# Altium schematic symbol library kmilo17pet-LT_OpAmp_LT2000.SchLib: 1710 symbols (part 65 of 75)
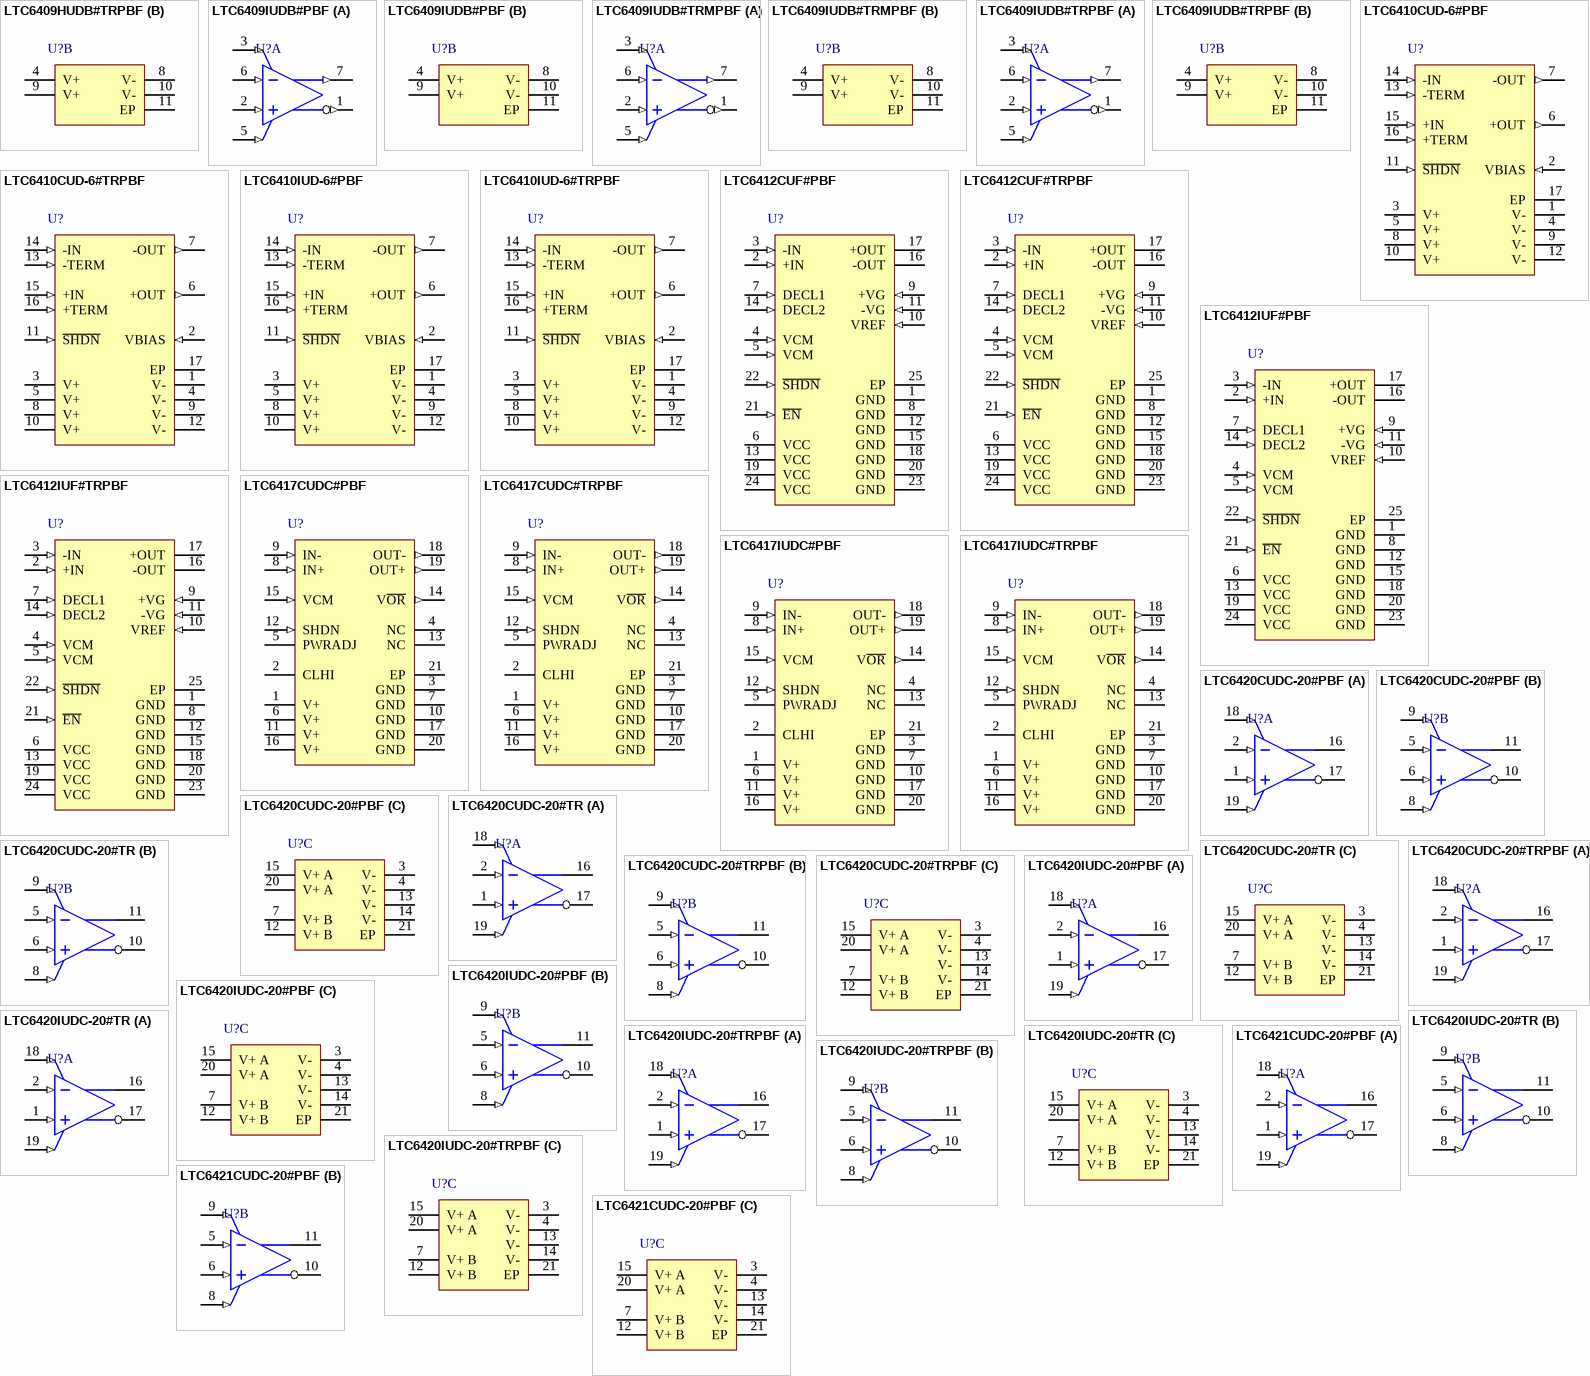
[diagram p144: symbols LTC6409HUDB#TRPBF to LTC6421CUDC-20#PBF]

## LTC6417IUDC#TRPBF
designator U?
Single Channel, Low Noise, High Linearity Differential Buffer / 16-Bit ADC Driver with Fast Clamp, 1600 MHz Typical GBW, 10000 V/us Typical SR, 4.75 to 5.25 V, 20-Pin QFN (UDC20), Industrial, Pb-Free, Reel; Linear Technology Part Number: LTC6417; Manufacturer: Linear Technology; PartNumber: LTC6417IUDC#TRPBF; Channels (#): 1; GBW (MHz) Typical: 1600; Is (mA) Typical: 123; SR (V/us) Typical: 10000; Vos (mV) Typical: 0.1; Vs Max (V): 5.25; Vs Min (V): 4.75; PackageVersion: Rev Ø; PackageReference: LT-UDC-20; PackageDescription: 20-Lead Plastic QFN, Body 3 x 4 mm, Pitch 0.5 mm; Supplier 1: Digi-Key; Supplier Part Number 1: LTC6417IUDC#TRPBF-ND; Supplier 2: Newark; Supplier Part Number 2: 27W9506; Packing: Reel; RoHS: Pb-Free; Type: DIFF; Mounting Technology: Surface Mount; ComponentLink1Description: Manufacturer URL; ComponentLink1URL: http://www.linear.com/; ComponentLink2Description: Datasheet; ComponentLink2URL: http://cds.linear.com/docs/en/datasheet/6417f.pdf; ComponentLink3Description: Package Specification; ComponentLink3URL: http://cds.linear.com/docs/en/packaging/QFN_20_05-08-1742.pdf
footprint LT-UDC-20_N (QFN, 20-Leads, Body 4x3mm, Pitch 0.5mm, Thermal Pad 2.5x1.5mm, IPC Medium Density)
footprint LT-UDC-20_L (QFN, 20-Leads, Body 4x3mm, Pitch 0.5mm, Thermal Pad 2.5x1.5mm, IPC High Density)
footprint LT-UDC-20_M (QFN, 20-Leads, Body 4x3mm, Pitch 0.5mm, Thermal Pad 2.5x1.5mm, IPC Low Density)
pins: 1 V+ (power) "Positive Power Supply. Typically 5V.Split supplies are possible as long as the voltage between V+ and GND is 4.75V to 5.25V. Bypass capacitors of 680Pf and 0.1uF as close to the part as possible should be used between the (See Datasheet)", 2 CLHI (power) "High Side Clamp Voltage. The voltage applied to the CLHI pin defines the upper voltage limit of the OUT+ and OUT- pins. This voltage should be set at least 300mV above the upper voltage range of the ADC. On a 5V supply, the (See Datasheet)", 3 GND (power) "Negative Power Supply. Normally tied to ground. All pins and the exposed pad must be tied to the same voltage. GND may be tied to a voltage other than ground as long as the voltage between V+ and GND is 4.75V to 5.25V. If (See Datasheet)", 4 NC "No Connection. These pins are not connected internally.", 5 PWRADJ (power) "Power Adjust Voltage. The voltage applied to this pin scales the bias current internal to the LTC6417. The PWRADJ pin will float to a 1.6V default voltage. PWRADJ has a Thevenin equivalent resistance of approximately 14.5k (See Datasheet)", 6 V+ (power) "Positive Power Supply. Typically 5V.Split supplies are possible as long as the voltage between V+ and GND is 4.75V to 5.25V. Bypass capacitors of 680Pf and 0.1uF as close to the part as possible should be used between the (See Datasheet)", 7 GND (power) "Negative Power Supply. Normally tied to ground. All pins and the exposed pad must be tied to the same voltage. GND may be tied to a voltage other than ground as long as the voltage between V+ and GND is 4.75V to 5.25V. If (See Datasheet)", 8 IN+ (in) "Non-inverting and inverting input pins of the buffer, respectively. These pins are high impedance, approximately 9.5k. If AC-coupled, these pins will self bias to the voltage applied to the VCM pin.", 9 IN- (in) "Non-inverting and inverting input pins of the buffer, respectively. These pins are high impedance, approximately 9.5k. If AC-coupled, these pins will self bias to the voltage applied to the VCM pin.", 10 GND (power) "Negative Power Supply. Normally tied to ground. All pins and the exposed pad must be tied to the same voltage. GND may be tied to a voltage other than ground as long as the voltage between V+ and GND is 4.75V to 5.25V. If (See Datasheet)", 11 V+ (power) "Positive Power Supply. Typically 5V.Split supplies are possible as long as the voltage between V+ and GND is 4.75V to 5.25V. Bypass capacitors of 680Pf and 0.1uF as close to the part as possible should be used between the (See Datasheet)", 12 SHDN (in) "This pin puts the LTC6417 in sleep mode when pulled high. If no voltage is applied to the SHDN pin, it floats down to the same potential as GND.", 13 NC "No Connection. These pins are not connected internally.", 14 V~{OR} (out) "Overrange Output. This pin, by default at 3.4V, will be pulled down to GND, when one or both input signals go beyond the minimum or maximum swing set by the CLHI and VCM pins.", 15 VCM (in) "This pin sets the output common mode voltage seen at OUT+ and OUT- by driving IN+ and IN- through a buffer with a high output resistance of 9.5k. The VCM pin has a Thevenin equivalent resistance of approximately 2.7k and can (See Datasheet)", 16 V+ (power) "Positive Power Supply. Typically 5V.Split supplies are possible as long as the voltage between V+ and GND is 4.75V to 5.25V. Bypass capacitors of 680Pf and 0.1uF as close to the part as possible should be used between the (See Datasheet)", 17 GND (power) "Negative Power Supply. Normally tied to ground. All pins and the exposed pad must be tied to the same voltage. GND may be tied to a voltage other than ground as long as the voltage between V+ and GND is 4.75V to 5.25V. If (See Datasheet)", 18 OUT- (out) "Outputs.", 19 OUT+ (out) "Outputs.", 20 GND (power) "Negative Power Supply. Normally tied to ground. All pins and the exposed pad must be tied to the same voltage. GND may be tied to a voltage other than ground as long as the voltage between V+ and GND is 4.75V to 5.25V. If (See Datasheet)", 21 EP (power) "Negative Power Supply. Normally tied to ground. All pins and the exposed pad must be tied to the same voltage. GND may be tied to a voltage other than ground as long as the voltage between V+ and GND is 4.75V to 5.25V. If (See Datasheet)"

## LTC6420CUDC-20#PBF
designator U?
Dual Channel, Matched Differential Amplifier / ADC Driver, 3000 MHz Typical GBW, 4500 V/us Typical SR, 2.85 to 3.5 V, 20-Pin QFN (UDC20), Commercial, Pb-Free; Linear Technology Part Number: LTC6420-20; Manufacturer: Linear Technology; PartNumber: LTC6420CUDC-20#PBF; Channels (#): 2; GBW (MHz) Typical: 3000; Is (mA) Typical: 80; SR (V/us) Typical: 4500; Vos (mV) Typical: 0.4; Vs Max (V): 3.5; Vs Min (V): 2.85; DatasheetVersion: Rev. B; PackageVersion: Rev Ø; PackageReference: LT-UDC-20; PackageDescription: 20-Lead Plastic QFN, Body 3 x 4 mm, Pitch 0.5 mm; Supplier 1: Digi-Key; Supplier Part Number 1: LTC6420CUDC-20#PBF-ND; Supplier 2: Farnell; Supplier Part Number 2: 1673532; Supplier 3: Farnell; Supplier Part Number 3: 1671957; Supplier 4: Newark; Supplier Part Number 4: 12P6568; RoHS: Pb-Free; Type: DIFF; Mounting Technology: Surface Mount; ComponentLink1Description: Manufacturer URL; ComponentLink1URL: http://www.linear.com/; ComponentLink2Description: Datasheet; ComponentLink2URL: http://cds.linear.com/docs/en/datasheet/642020fb.pdf; ComponentLink3Description: Package Specification; ComponentLink3URL: http://cds.linear.com/docs/en/packaging/QFN_20_05-08-1742.pdf
footprint LT-UDC-20_N (QFN, 20-Leads, Body 4x3mm, Pitch 0.5mm, Thermal Pad 2.5x1.5mm, IPC Medium Density)
footprint LT-UDC-20_L (QFN, 20-Leads, Body 4x3mm, Pitch 0.5mm, Thermal Pad 2.5x1.5mm, IPC High Density)
footprint LT-UDC-20_M (QFN, 20-Leads, Body 4x3mm, Pitch 0.5mm, Thermal Pad 2.5x1.5mm, IPC Low Density)
part A pins: 1 +INA (in) "Differential Input of A channel respectively.", 2 -INA (in) "Differential Input of A channel respectively.", 16 -OUTA (hiz) "Differential Output of channe A respectively.", 17 +OUTA (hiz) "Differential Output of channe A respectively.", 18 ~{ENABLEA} (in) "Logic input. If low, the amplifier is enabled. If high, the amplifier is disabled and placed in a low power shutdown mode, making the amplifier outputs high impedance. These pin is internally separate. These pin should not (See Datasheet)", 19 VOCMA (in) "These pin sets the output common mode voltage for the respective channel. It is  internally separate. A 0.1uF external bypass capacitor is recommended."
part B pins: 5 -INB (in) "Differential Input of  B channel respectively.", 6 +INB (in) "Differential Input of  B channel respectively.", 8 VOCMB (in) "These pin sets the output common mode voltage for the respective channel. It is  internally separate. A 0.1uF external bypass capacitor is recommended.", 9 ~{ENABLEB} (in) "Logic input. If low, the amplifier is enabled. If high, the amplifier is disabled and placed in a low power shutdown mode, making the amplifier outputs high impedance. These pin is internally separate. These pin should not (See Datasheet)", 10 +OUTB (hiz) "Differential Output of channe B respectively.", 11 -OUTB (hiz) "Differential Output of channe B respectively."
part C pins: 3 V- (power) "Negative Power Supply. All four pins, as well as the exposed back, must be connected to same voltage/ground.", 4 V- (power) "Negative Power Supply. All four pins, as well as the exposed back, must be connected to same voltage/ground.", 7 V+ B (power) "Positive Power Supply (Normally tied to 3V or 3.3V). Supply pins of A and B channels are internally separate. Bypass each pin with 1000pF and 0.1uF capacitors as close to the pins as possible.", 12 V+ B (power) "Positive Power Supply (Normally tied to 3V or 3.3V). Supply pins of A and B channels are internally separate. Bypass each pin with 1000pF and 0.1uF capacitors as close to the pins as possible.", 13 V- (power) "Negative Power Supply. All four pins, as well as the exposed back, must be connected to same voltage/ground.", 14 V- (power) "Negative Power Supply. All four pins, as well as the exposed back, must be connected to same voltage/ground.", 15 V+ A (power) "Positive Power Supply (Normally tied to 3V or 3.3V). Supply pins of A and B channels are internally separate. Bypass each pin with 1000pF and 0.1uF capacitors as close to the pins as possible.", 20 V+ A (power) "Positive Power Supply (Normally tied to 3V or 3.3V). Supply pins of A and B channels are internally separate. Bypass each pin with 1000pF and 0.1uF capacitors as close to the pins as possible.", 21 EP (power) "V-. The Exposed Pad must be connected to same voltage/ground as pins 3, 4, 13, 14."

## LTC6420CUDC-20#TR
designator U?
Dual Channel, Matched Differential Amplifier / ADC Driver, 3000 MHz Typical GBW, 4500 V/us Typical SR, 2.85 to 3.5 V, 20-Pin QFN (UDC20), Commercial, Reel; Linear Technology Part Number: LTC6420-20; Manufacturer: Linear Technology; PartNumber: LTC6420CUDC-20#TR; Channels (#): 2; GBW (MHz) Typical: 3000; Is (mA) Typical: 80; SR (V/us) Typical: 4500; Vos (mV) Typical: 0.4; Vs Max (V): 3.5; Vs Min (V): 2.85; DatasheetVersion: Rev. B; PackageVersion: Rev Ø; PackageReference: LT-UDC-20; PackageDescription: 20-Lead Plastic QFN, Body 3 x 4 mm, Pitch 0.5 mm; Supplier 1: Newark; Supplier Part Number 1: 12P7590; Packing: Reel; Type: DIFF; Mounting Technology: Surface Mount; ComponentLink1Description: Manufacturer URL; ComponentLink1URL: http://www.linear.com/; ComponentLink2Description: Datasheet; ComponentLink2URL: http://cds.linear.com/docs/en/datasheet/642020fb.pdf; ComponentLink3Description: Package Specification; ComponentLink3URL: http://cds.linear.com/docs/en/packaging/QFN_20_05-08-1742.pdf
footprint LT-UDC-20_N (QFN, 20-Leads, Body 4x3mm, Pitch 0.5mm, Thermal Pad 2.5x1.5mm, IPC Medium Density)
footprint LT-UDC-20_L (QFN, 20-Leads, Body 4x3mm, Pitch 0.5mm, Thermal Pad 2.5x1.5mm, IPC High Density)
footprint LT-UDC-20_M (QFN, 20-Leads, Body 4x3mm, Pitch 0.5mm, Thermal Pad 2.5x1.5mm, IPC Low Density)
part A pins: 1 +INA (in) "Differential Input of A channel respectively.", 2 -INA (in) "Differential Input of A channel respectively.", 16 -OUTA (hiz) "Differential Output of channe A respectively.", 17 +OUTA (hiz) "Differential Output of channe A respectively.", 18 ~{ENABLEA} (in) "Logic input. If low, the amplifier is enabled. If high, the amplifier is disabled and placed in a low power shutdown mode, making the amplifier outputs high impedance. These pin is internally separate. These pin should not (See Datasheet)", 19 VOCMA (in) "These pin sets the output common mode voltage for the respective channel. It is  internally separate. A 0.1uF external bypass capacitor is recommended."
part B pins: 5 -INB (in) "Differential Input of  B channel respectively.", 6 +INB (in) "Differential Input of  B channel respectively.", 8 VOCMB (in) "These pin sets the output common mode voltage for the respective channel. It is  internally separate. A 0.1uF external bypass capacitor is recommended.", 9 ~{ENABLEB} (in) "Logic input. If low, the amplifier is enabled. If high, the amplifier is disabled and placed in a low power shutdown mode, making the amplifier outputs high impedance. These pin is internally separate. These pin should not (See Datasheet)", 10 +OUTB (hiz) "Differential Output of channe B respectively.", 11 -OUTB (hiz) "Differential Output of channe B respectively."
part C pins: 3 V- (power) "Negative Power Supply. All four pins, as well as the exposed back, must be connected to same voltage/ground.", 4 V- (power) "Negative Power Supply. All four pins, as well as the exposed back, must be connected to same voltage/ground.", 7 V+ B (power) "Positive Power Supply (Normally tied to 3V or 3.3V). Supply pins of A and B channels are internally separate. Bypass each pin with 1000pF and 0.1uF capacitors as close to the pins as possible.", 12 V+ B (power) "Positive Power Supply (Normally tied to 3V or 3.3V). Supply pins of A and B channels are internally separate. Bypass each pin with 1000pF and 0.1uF capacitors as close to the pins as possible.", 13 V- (power) "Negative Power Supply. All four pins, as well as the exposed back, must be connected to same voltage/ground.", 14 V- (power) "Negative Power Supply. All four pins, as well as the exposed back, must be connected to same voltage/ground.", 15 V+ A (power) "Positive Power Supply (Normally tied to 3V or 3.3V). Supply pins of A and B channels are internally separate. Bypass each pin with 1000pF and 0.1uF capacitors as close to the pins as possible.", 20 V+ A (power) "Positive Power Supply (Normally tied to 3V or 3.3V). Supply pins of A and B channels are internally separate. Bypass each pin with 1000pF and 0.1uF capacitors as close to the pins as possible.", 21 EP (power) "V-. The Exposed Pad must be connected to same voltage/ground as pins 3, 4, 13, 14."

## LTC6420CUDC-20#TRPBF
designator U?
Dual Channel, Matched Differential Amplifier / ADC Driver, 3000 MHz Typical GBW, 4500 V/us Typical SR, 2.85 to 3.5 V, 20-Pin QFN (UDC20), Commercial, Pb-Free, Reel; Linear Technology Part Number: LTC6420-20; Manufacturer: Linear Technology; PartNumber: LTC6420CUDC-20#TRPBF; Channels (#): 2; GBW (MHz) Typical: 3000; Is (mA) Typical: 80; SR (V/us) Typical: 4500; Vos (mV) Typical: 0.4; Vs Max (V): 3.5; Vs Min (V): 2.85; DatasheetVersion: Rev. B; PackageVersion: Rev Ø; PackageReference: LT-UDC-20; PackageDescription: 20-Lead Plastic QFN, Body 3 x 4 mm, Pitch 0.5 mm; Supplier 1: Digi-Key; Supplier Part Number 1: LTC6420CUDC-20#TRPBF-ND; Supplier 2: Newark; Supplier Part Number 2: 12P7591; Packing: Reel; RoHS: Pb-Free; Type: DIFF; Mounting Technology: Surface Mount; ComponentLink1Description: Manufacturer URL; ComponentLink1URL: http://www.linear.com/; ComponentLink2Description: Datasheet; ComponentLink2URL: http://cds.linear.com/docs/en/datasheet/642020fb.pdf; ComponentLink3Description: Package Specification; ComponentLink3URL: http://cds.linear.com/docs/en/packaging/QFN_20_05-08-1742.pdf
footprint LT-UDC-20_N (QFN, 20-Leads, Body 4x3mm, Pitch 0.5mm, Thermal Pad 2.5x1.5mm, IPC Medium Density)
footprint LT-UDC-20_L (QFN, 20-Leads, Body 4x3mm, Pitch 0.5mm, Thermal Pad 2.5x1.5mm, IPC High Density)
footprint LT-UDC-20_M (QFN, 20-Leads, Body 4x3mm, Pitch 0.5mm, Thermal Pad 2.5x1.5mm, IPC Low Density)
part A pins: 1 +INA (in) "Differential Input of A channel respectively.", 2 -INA (in) "Differential Input of A channel respectively.", 16 -OUTA (hiz) "Differential Output of channe A respectively.", 17 +OUTA (hiz) "Differential Output of channe A respectively.", 18 ~{ENABLEA} (in) "Logic input. If low, the amplifier is enabled. If high, the amplifier is disabled and placed in a low power shutdown mode, making the amplifier outputs high impedance. These pin is internally separate. These pin should not (See Datasheet)", 19 VOCMA (in) "These pin sets the output common mode voltage for the respective channel. It is  internally separate. A 0.1uF external bypass capacitor is recommended."
part B pins: 5 -INB (in) "Differential Input of  B channel respectively.", 6 +INB (in) "Differential Input of  B channel respectively.", 8 VOCMB (in) "These pin sets the output common mode voltage for the respective channel. It is  internally separate. A 0.1uF external bypass capacitor is recommended.", 9 ~{ENABLEB} (in) "Logic input. If low, the amplifier is enabled. If high, the amplifier is disabled and placed in a low power shutdown mode, making the amplifier outputs high impedance. These pin is internally separate. These pin should not (See Datasheet)", 10 +OUTB (hiz) "Differential Output of channe B respectively.", 11 -OUTB (hiz) "Differential Output of channe B respectively."
part C pins: 3 V- (power) "Negative Power Supply. All four pins, as well as the exposed back, must be connected to same voltage/ground.", 4 V- (power) "Negative Power Supply. All four pins, as well as the exposed back, must be connected to same voltage/ground.", 7 V+ B (power) "Positive Power Supply (Normally tied to 3V or 3.3V). Supply pins of A and B channels are internally separate. Bypass each pin with 1000pF and 0.1uF capacitors as close to the pins as possible.", 12 V+ B (power) "Positive Power Supply (Normally tied to 3V or 3.3V). Supply pins of A and B channels are internally separate. Bypass each pin with 1000pF and 0.1uF capacitors as close to the pins as possible.", 13 V- (power) "Negative Power Supply. All four pins, as well as the exposed back, must be connected to same voltage/ground.", 14 V- (power) "Negative Power Supply. All four pins, as well as the exposed back, must be connected to same voltage/ground.", 15 V+ A (power) "Positive Power Supply (Normally tied to 3V or 3.3V). Supply pins of A and B channels are internally separate. Bypass each pin with 1000pF and 0.1uF capacitors as close to the pins as possible.", 20 V+ A (power) "Positive Power Supply (Normally tied to 3V or 3.3V). Supply pins of A and B channels are internally separate. Bypass each pin with 1000pF and 0.1uF capacitors as close to the pins as possible.", 21 EP (power) "V-. The Exposed Pad must be connected to same voltage/ground as pins 3, 4, 13, 14."

## LTC6420IUDC-20#PBF
designator U?
Dual Channel, Matched Differential Amplifier / ADC Driver, 3000 MHz Typical GBW, 4500 V/us Typical SR, 2.85 to 3.5 V, 20-Pin QFN (UDC20), Industrial, Pb-Free; Linear Technology Part Number: LTC6420-20; Manufacturer: Linear Technology; PartNumber: LTC6420IUDC-20#PBF; Channels (#): 2; GBW (MHz) Typical: 3000; Is (mA) Typical: 80; SR (V/us) Typical: 4500; Vos (mV) Typical: 0.4; Vs Max (V): 3.5; Vs Min (V): 2.85; DatasheetVersion: Rev. B; PackageVersion: Rev Ø; PackageReference: LT-UDC-20; PackageDescription: 20-Lead Plastic QFN, Body 3 x 4 mm, Pitch 0.5 mm; Supplier 1: Digi-Key; Supplier Part Number 1: LTC6420IUDC-20#PBF-ND; Supplier 2: Farnell; Supplier Part Number 2: 1673526; Supplier 3: Newark; Supplier Part Number 3: 12P7592; RoHS: Pb-Free; Type: DIFF; Mounting Technology: Surface Mount; ComponentLink1Description: Manufacturer URL; ComponentLink1URL: http://www.linear.com/; ComponentLink2Description: Datasheet; ComponentLink2URL: http://cds.linear.com/docs/en/datasheet/642020fb.pdf; ComponentLink3Description: Package Specification; ComponentLink3URL: http://cds.linear.com/docs/en/packaging/QFN_20_05-08-1742.pdf
footprint LT-UDC-20_N (QFN, 20-Leads, Body 4x3mm, Pitch 0.5mm, Thermal Pad 2.5x1.5mm, IPC Medium Density)
footprint LT-UDC-20_L (QFN, 20-Leads, Body 4x3mm, Pitch 0.5mm, Thermal Pad 2.5x1.5mm, IPC High Density)
footprint LT-UDC-20_M (QFN, 20-Leads, Body 4x3mm, Pitch 0.5mm, Thermal Pad 2.5x1.5mm, IPC Low Density)
part A pins: 1 +INA (in) "Differential Input of A channel respectively.", 2 -INA (in) "Differential Input of A channel respectively.", 16 -OUTA (hiz) "Differential Output of channe A respectively.", 17 +OUTA (hiz) "Differential Output of channe A respectively.", 18 ~{ENABLEA} (in) "Logic input. If low, the amplifier is enabled. If high, the amplifier is disabled and placed in a low power shutdown mode, making the amplifier outputs high impedance. These pin is internally separate. These pin should not (See Datasheet)", 19 VOCMA (in) "These pin sets the output common mode voltage for the respective channel. It is  internally separate. A 0.1uF external bypass capacitor is recommended."
part B pins: 5 -INB (in) "Differential Input of  B channel respectively.", 6 +INB (in) "Differential Input of  B channel respectively.", 8 VOCMB (in) "These pin sets the output common mode voltage for the respective channel. It is  internally separate. A 0.1uF external bypass capacitor is recommended.", 9 ~{ENABLEB} (in) "Logic input. If low, the amplifier is enabled. If high, the amplifier is disabled and placed in a low power shutdown mode, making the amplifier outputs high impedance. These pin is internally separate. These pin should not (See Datasheet)", 10 +OUTB (hiz) "Differential Output of channe B respectively.", 11 -OUTB (hiz) "Differential Output of channe B respectively."
part C pins: 3 V- (power) "Negative Power Supply. All four pins, as well as the exposed back, must be connected to same voltage/ground.", 4 V- (power) "Negative Power Supply. All four pins, as well as the exposed back, must be connected to same voltage/ground.", 7 V+ B (power) "Positive Power Supply (Normally tied to 3V or 3.3V). Supply pins of A and B channels are internally separate. Bypass each pin with 1000pF and 0.1uF capacitors as close to the pins as possible.", 12 V+ B (power) "Positive Power Supply (Normally tied to 3V or 3.3V). Supply pins of A and B channels are internally separate. Bypass each pin with 1000pF and 0.1uF capacitors as close to the pins as possible.", 13 V- (power) "Negative Power Supply. All four pins, as well as the exposed back, must be connected to same voltage/ground.", 14 V- (power) "Negative Power Supply. All four pins, as well as the exposed back, must be connected to same voltage/ground.", 15 V+ A (power) "Positive Power Supply (Normally tied to 3V or 3.3V). Supply pins of A and B channels are internally separate. Bypass each pin with 1000pF and 0.1uF capacitors as close to the pins as possible.", 20 V+ A (power) "Positive Power Supply (Normally tied to 3V or 3.3V). Supply pins of A and B channels are internally separate. Bypass each pin with 1000pF and 0.1uF capacitors as close to the pins as possible.", 21 EP (power) "V-. The Exposed Pad must be connected to same voltage/ground as pins 3, 4, 13, 14."

## LTC6420IUDC-20#TR
designator U?
Dual Channel, Matched Differential Amplifier / ADC Driver, 3000 MHz Typical GBW, 4500 V/us Typical SR, 2.85 to 3.5 V, 20-Pin QFN (UDC20), Industrial, Reel; Linear Technology Part Number: LTC6420-20; Manufacturer: Linear Technology; PartNumber: LTC6420IUDC-20#TR; Channels (#): 2; GBW (MHz) Typical: 3000; Is (mA) Typical: 80; SR (V/us) Typical: 4500; Vos (mV) Typical: 0.4; Vs Max (V): 3.5; Vs Min (V): 2.85; DatasheetVersion: Rev. B; PackageVersion: Rev Ø; PackageReference: LT-UDC-20; PackageDescription: 20-Lead Plastic QFN, Body 3 x 4 mm, Pitch 0.5 mm; Supplier 1: Newark; Supplier Part Number 1: 12P7593; Packing: Reel; Type: DIFF; Mounting Technology: Surface Mount; ComponentLink1Description: Manufacturer URL; ComponentLink1URL: http://www.linear.com/; ComponentLink2Description: Datasheet; ComponentLink2URL: http://cds.linear.com/docs/en/datasheet/642020fb.pdf; ComponentLink3Description: Package Specification; ComponentLink3URL: http://cds.linear.com/docs/en/packaging/QFN_20_05-08-1742.pdf
footprint LT-UDC-20_N (QFN, 20-Leads, Body 4x3mm, Pitch 0.5mm, Thermal Pad 2.5x1.5mm, IPC Medium Density)
footprint LT-UDC-20_L (QFN, 20-Leads, Body 4x3mm, Pitch 0.5mm, Thermal Pad 2.5x1.5mm, IPC High Density)
footprint LT-UDC-20_M (QFN, 20-Leads, Body 4x3mm, Pitch 0.5mm, Thermal Pad 2.5x1.5mm, IPC Low Density)
part A pins: 1 +INA (in) "Differential Input of A channel respectively.", 2 -INA (in) "Differential Input of A channel respectively.", 16 -OUTA (hiz) "Differential Output of channe A respectively.", 17 +OUTA (hiz) "Differential Output of channe A respectively.", 18 ~{ENABLEA} (in) "Logic input. If low, the amplifier is enabled. If high, the amplifier is disabled and placed in a low power shutdown mode, making the amplifier outputs high impedance. These pin is internally separate. These pin should not (See Datasheet)", 19 VOCMA (in) "These pin sets the output common mode voltage for the respective channel. It is  internally separate. A 0.1uF external bypass capacitor is recommended."
part B pins: 5 -INB (in) "Differential Input of  B channel respectively.", 6 +INB (in) "Differential Input of  B channel respectively.", 8 VOCMB (in) "These pin sets the output common mode voltage for the respective channel. It is  internally separate. A 0.1uF external bypass capacitor is recommended.", 9 ~{ENABLEB} (in) "Logic input. If low, the amplifier is enabled. If high, the amplifier is disabled and placed in a low power shutdown mode, making the amplifier outputs high impedance. These pin is internally separate. These pin should not (See Datasheet)", 10 +OUTB (hiz) "Differential Output of channe B respectively.", 11 -OUTB (hiz) "Differential Output of channe B respectively."
part C pins: 3 V- (power) "Negative Power Supply. All four pins, as well as the exposed back, must be connected to same voltage/ground.", 4 V- (power) "Negative Power Supply. All four pins, as well as the exposed back, must be connected to same voltage/ground.", 7 V+ B (power) "Positive Power Supply (Normally tied to 3V or 3.3V). Supply pins of A and B channels are internally separate. Bypass each pin with 1000pF and 0.1uF capacitors as close to the pins as possible.", 12 V+ B (power) "Positive Power Supply (Normally tied to 3V or 3.3V). Supply pins of A and B channels are internally separate. Bypass each pin with 1000pF and 0.1uF capacitors as close to the pins as possible.", 13 V- (power) "Negative Power Supply. All four pins, as well as the exposed back, must be connected to same voltage/ground.", 14 V- (power) "Negative Power Supply. All four pins, as well as the exposed back, must be connected to same voltage/ground.", 15 V+ A (power) "Positive Power Supply (Normally tied to 3V or 3.3V). Supply pins of A and B channels are internally separate. Bypass each pin with 1000pF and 0.1uF capacitors as close to the pins as possible.", 20 V+ A (power) "Positive Power Supply (Normally tied to 3V or 3.3V). Supply pins of A and B channels are internally separate. Bypass each pin with 1000pF and 0.1uF capacitors as close to the pins as possible.", 21 EP (power) "V-. The Exposed Pad must be connected to same voltage/ground as pins 3, 4, 13, 14."

## LTC6420IUDC-20#TRPBF
designator U?
Dual Channel, Matched Differential Amplifier / ADC Driver, 3000 MHz Typical GBW, 4500 V/us Typical SR, 2.85 to 3.5 V, 20-Pin QFN (UDC20), Industrial, Pb-Free, Reel; Linear Technology Part Number: LTC6420-20; Manufacturer: Linear Technology; PartNumber: LTC6420IUDC-20#TRPBF; Channels (#): 2; GBW (MHz) Typical: 3000; Is (mA) Typical: 80; SR (V/us) Typical: 4500; Vos (mV) Typical: 0.4; Vs Max (V): 3.5; Vs Min (V): 2.85; DatasheetVersion: Rev. B; PackageVersion: Rev Ø; PackageReference: LT-UDC-20; PackageDescription: 20-Lead Plastic QFN, Body 3 x 4 mm, Pitch 0.5 mm; Supplier 1: Digi-Key; Supplier Part Number 1: LTC6420IUDC-20#TRPBF-ND; Supplier 2: Newark; Supplier Part Number 2: 12P7594; Packing: Reel; RoHS: Pb-Free; Type: DIFF; Mounting Technology: Surface Mount; ComponentLink1Description: Manufacturer URL; ComponentLink1URL: http://www.linear.com/; ComponentLink2Description: Datasheet; ComponentLink2URL: http://cds.linear.com/docs/en/datasheet/642020fb.pdf; ComponentLink3Description: Package Specification; ComponentLink3URL: http://cds.linear.com/docs/en/packaging/QFN_20_05-08-1742.pdf
footprint LT-UDC-20_N (QFN, 20-Leads, Body 4x3mm, Pitch 0.5mm, Thermal Pad 2.5x1.5mm, IPC Medium Density)
footprint LT-UDC-20_L (QFN, 20-Leads, Body 4x3mm, Pitch 0.5mm, Thermal Pad 2.5x1.5mm, IPC High Density)
footprint LT-UDC-20_M (QFN, 20-Leads, Body 4x3mm, Pitch 0.5mm, Thermal Pad 2.5x1.5mm, IPC Low Density)
part A pins: 1 +INA (in) "Differential Input of A channel respectively.", 2 -INA (in) "Differential Input of A channel respectively.", 16 -OUTA (hiz) "Differential Output of channe A respectively.", 17 +OUTA (hiz) "Differential Output of channe A respectively.", 18 ~{ENABLEA} (in) "Logic input. If low, the amplifier is enabled. If high, the amplifier is disabled and placed in a low power shutdown mode, making the amplifier outputs high impedance. These pin is internally separate. These pin should not (See Datasheet)", 19 VOCMA (in) "These pin sets the output common mode voltage for the respective channel. It is  internally separate. A 0.1uF external bypass capacitor is recommended."
part B pins: 5 -INB (in) "Differential Input of  B channel respectively.", 6 +INB (in) "Differential Input of  B channel respectively.", 8 VOCMB (in) "These pin sets the output common mode voltage for the respective channel. It is  internally separate. A 0.1uF external bypass capacitor is recommended.", 9 ~{ENABLEB} (in) "Logic input. If low, the amplifier is enabled. If high, the amplifier is disabled and placed in a low power shutdown mode, making the amplifier outputs high impedance. These pin is internally separate. These pin should not (See Datasheet)", 10 +OUTB (hiz) "Differential Output of channe B respectively.", 11 -OUTB (hiz) "Differential Output of channe B respectively."
part C pins: 3 V- (power) "Negative Power Supply. All four pins, as well as the exposed back, must be connected to same voltage/ground.", 4 V- (power) "Negative Power Supply. All four pins, as well as the exposed back, must be connected to same voltage/ground.", 7 V+ B (power) "Positive Power Supply (Normally tied to 3V or 3.3V). Supply pins of A and B channels are internally separate. Bypass each pin with 1000pF and 0.1uF capacitors as close to the pins as possible.", 12 V+ B (power) "Positive Power Supply (Normally tied to 3V or 3.3V). Supply pins of A and B channels are internally separate. Bypass each pin with 1000pF and 0.1uF capacitors as close to the pins as possible.", 13 V- (power) "Negative Power Supply. All four pins, as well as the exposed back, must be connected to same voltage/ground.", 14 V- (power) "Negative Power Supply. All four pins, as well as the exposed back, must be connected to same voltage/ground.", 15 V+ A (power) "Positive Power Supply (Normally tied to 3V or 3.3V). Supply pins of A and B channels are internally separate. Bypass each pin with 1000pF and 0.1uF capacitors as close to the pins as possible.", 20 V+ A (power) "Positive Power Supply (Normally tied to 3V or 3.3V). Supply pins of A and B channels are internally separate. Bypass each pin with 1000pF and 0.1uF capacitors as close to the pins as possible.", 21 EP (power) "V-. The Exposed Pad must be connected to same voltage/ground as pins 3, 4, 13, 14."

## LTC6421CUDC-20#PBF
designator U?
Dual Channel, Matched Differential Amplifier / ADC Driver, 1300 MHz Typical GBW, 4500 V/us Typical SR, 2.85 to 3.5 V, 20-Pin QFN (UDC20), Commercial, Pb-Free; Linear Technology Part Number: LTC6421-20; Manufacturer: Linear Technology; PartNumber: LTC6421CUDC-20#PBF; Channels (#): 2; GBW (MHz) Typical: 1300; Is (mA) Typical: 40; SR (V/us) Typical: 4500; Vos (mV) Typical: 0.4; Vs Max (V): 3.5; Vs Min (V): 2.85; DatasheetVersion: Rev. B; PackageVersion: Rev Ø; PackageReference: LT-UDC-20; PackageDescription: 20-Lead Plastic QFN, Body 3 x 4 mm, Pitch 0.5 mm; Supplier 1: Digi-Key; Supplier Part Number 1: LTC6421CUDC-20#PBF-ND; Supplier 2: Newark; Supplier Part Number 2: 95M6544; RoHS: Pb-Free; Type: DIFF; Mounting Technology: Surface Mount; ComponentLink1Description: Manufacturer URL; ComponentLink1URL: http://www.linear.com/; ComponentLink2Description: Datasheet; ComponentLink2URL: http://cds.linear.com/docs/en/datasheet/642120f.pdf; ComponentLink3Description: Package Specification; ComponentLink3URL: http://cds.linear.com/docs/en/packaging/QFN_20_05-08-1742.pdf
footprint LT-UDC-20_N (QFN, 20-Leads, Body 4x3mm, Pitch 0.5mm, Thermal Pad 2.5x1.5mm, IPC Medium Density)
footprint LT-UDC-20_L (QFN, 20-Leads, Body 4x3mm, Pitch 0.5mm, Thermal Pad 2.5x1.5mm, IPC High Density)
footprint LT-UDC-20_M (QFN, 20-Leads, Body 4x3mm, Pitch 0.5mm, Thermal Pad 2.5x1.5mm, IPC Low Density)
part A pins: 1 +INA (in) "Differential Input of A channel respectively.", 2 -INA (in) "Differential Input of A channel respectively.", 16 -OUTA (hiz) "Differential Output of channe A respectively.", 17 +OUTA (hiz) "Differential Output of channe A respectively.", 18 ~{ENABLEA} (in) "Logic input. If low, the amplifier is enabled. If high, the amplifier is disabled and placed in a low power shutdown mode, making the amplifier outputs high impedance. These pin is internally separate. These pin should not (See Datasheet)", 19 VOCMA (in) "These pin sets the output common mode voltage for the respective channel. It is  internally separate. A 0.1uF external bypass capacitor is recommended."
part B pins: 5 -INB (in) "Differential Input of  B channel respectively.", 6 +INB (in) "Differential Input of  B channel respectively.", 8 VOCMB (in) "These pin sets the output common mode voltage for the respective channel. It is  internally separate. A 0.1uF external bypass capacitor is recommended.", 9 ~{ENABLEB} (in) "Logic input. If low, the amplifier is enabled. If high, the amplifier is disabled and placed in a low power shutdown mode, making the amplifier outputs high impedance. These pin is internally separate. These pin should not (See Datasheet)", 10 +OUTB (hiz) "Differential Output of channe B respectively.", 11 -OUTB (hiz) "Differential Output of channe B respectively."
part C pins: 3 V- (power) "Negative Power Supply. All four pins, as well as the exposed back, must be connected to same voltage/ground.", 4 V- (power) "Negative Power Supply. All four pins, as well as the exposed back, must be connected to same voltage/ground.", 7 V+ B (power) "Positive Power Supply (Normally tied to 3V or 3.3V). Supply pins of A and B channels are internally separate. Bypass each pin with 1000pF and 0.1uF capacitors as close to the pins as possible.", 12 V+ B (power) "Positive Power Supply (Normally tied to 3V or 3.3V). Supply pins of A and B channels are internally separate. Bypass each pin with 1000pF and 0.1uF capacitors as close to the pins as possible.", 13 V- (power) "Negative Power Supply. All four pins, as well as the exposed back, must be connected to same voltage/ground.", 14 V- (power) "Negative Power Supply. All four pins, as well as the exposed back, must be connected to same voltage/ground.", 15 V+ A (power) "Positive Power Supply (Normally tied to 3V or 3.3V). Supply pins of A and B channels are internally separate. Bypass each pin with 1000pF and 0.1uF capacitors as close to the pins as possible.", 20 V+ A (power) "Positive Power Supply (Normally tied to 3V or 3.3V). Supply pins of A and B channels are internally separate. Bypass each pin with 1000pF and 0.1uF capacitors as close to the pins as possible.", 21 EP (power) "V-. The Exposed Pad must be connected to same voltage/ground as pins 3, 4, 13, 14."

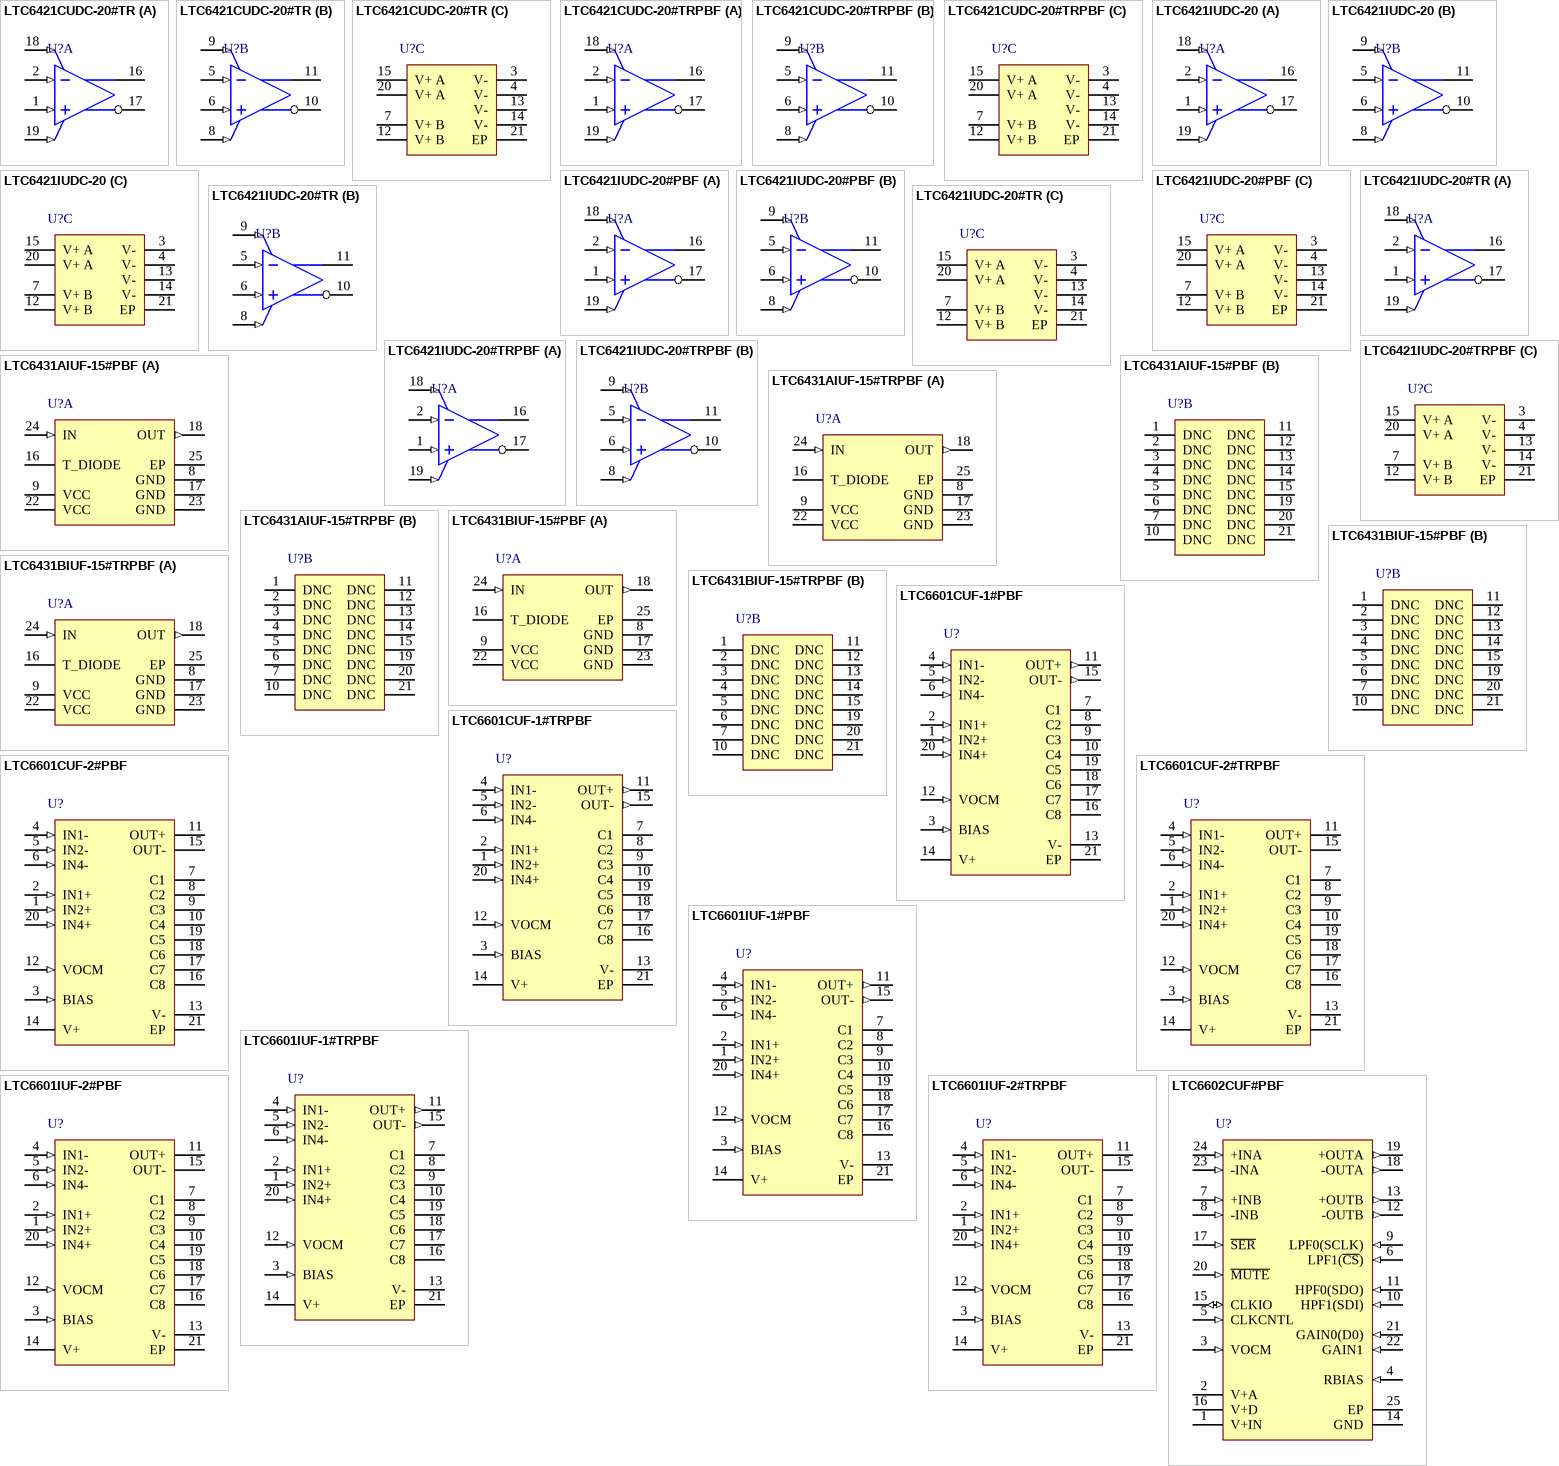
[diagram p76: symbols LTC6421CUDC-20#TR to LTC6602CUF#PBF]

## LTC6421CUDC-20#TR
designator U?
Dual Channel, Matched Differential Amplifier / ADC Driver, 1300 MHz Typical GBW, 4500 V/us Typical SR, 2.85 to 3.5 V, 20-Pin QFN (UDC20), Commercial, Reel; Linear Technology Part Number: LTC6421-20; Manufacturer: Linear Technology; PartNumber: LTC6421CUDC-20#TR; Channels (#): 2; GBW (MHz) Typical: 1300; Is (mA) Typical: 40; SR (V/us) Typical: 4500; Vos (mV) Typical: 0.4; Vs Max (V): 3.5; Vs Min (V): 2.85; DatasheetVersion: Rev. B; PackageVersion: Rev Ø; PackageReference: LT-UDC-20; PackageDescription: 20-Lead Plastic QFN, Body 3 x 4 mm, Pitch 0.5 mm; Supplier 1: Newark; Supplier Part Number 1: 95M6545; Packing: Reel; Type: DIFF; Mounting Technology: Surface Mount; ComponentLink1Description: Manufacturer URL; ComponentLink1URL: http://www.linear.com/; ComponentLink2Description: Datasheet; ComponentLink2URL: http://cds.linear.com/docs/en/datasheet/642120f.pdf; ComponentLink3Description: Package Specification; ComponentLink3URL: http://cds.linear.com/docs/en/packaging/QFN_20_05-08-1742.pdf
footprint LT-UDC-20_N (QFN, 20-Leads, Body 4x3mm, Pitch 0.5mm, Thermal Pad 2.5x1.5mm, IPC Medium Density)
footprint LT-UDC-20_L (QFN, 20-Leads, Body 4x3mm, Pitch 0.5mm, Thermal Pad 2.5x1.5mm, IPC High Density)
footprint LT-UDC-20_M (QFN, 20-Leads, Body 4x3mm, Pitch 0.5mm, Thermal Pad 2.5x1.5mm, IPC Low Density)
part A pins: 1 +INA (in) "Differential Input of A channel respectively.", 2 -INA (in) "Differential Input of A channel respectively.", 16 -OUTA (hiz) "Differential Output of channe A respectively.", 17 +OUTA (hiz) "Differential Output of channe A respectively.", 18 ~{ENABLEA} (in) "Logic input. If low, the amplifier is enabled. If high, the amplifier is disabled and placed in a low power shutdown mode, making the amplifier outputs high impedance. These pin is internally separate. These pin should not (See Datasheet)", 19 VOCMA (in) "These pin sets the output common mode voltage for the respective channel. It is  internally separate. A 0.1uF external bypass capacitor is recommended."
part B pins: 5 -INB (in) "Differential Input of  B channel respectively.", 6 +INB (in) "Differential Input of  B channel respectively.", 8 VOCMB (in) "These pin sets the output common mode voltage for the respective channel. It is  internally separate. A 0.1uF external bypass capacitor is recommended.", 9 ~{ENABLEB} (in) "Logic input. If low, the amplifier is enabled. If high, the amplifier is disabled and placed in a low power shutdown mode, making the amplifier outputs high impedance. These pin is internally separate. These pin should not (See Datasheet)", 10 +OUTB (hiz) "Differential Output of channe B respectively.", 11 -OUTB (hiz) "Differential Output of channe B respectively."
part C pins: 3 V- (power) "Negative Power Supply. All four pins, as well as the exposed back, must be connected to same voltage/ground.", 4 V- (power) "Negative Power Supply. All four pins, as well as the exposed back, must be connected to same voltage/ground.", 7 V+ B (power) "Positive Power Supply (Normally tied to 3V or 3.3V). Supply pins of A and B channels are internally separate. Bypass each pin with 1000pF and 0.1uF capacitors as close to the pins as possible.", 12 V+ B (power) "Positive Power Supply (Normally tied to 3V or 3.3V). Supply pins of A and B channels are internally separate. Bypass each pin with 1000pF and 0.1uF capacitors as close to the pins as possible.", 13 V- (power) "Negative Power Supply. All four pins, as well as the exposed back, must be connected to same voltage/ground.", 14 V- (power) "Negative Power Supply. All four pins, as well as the exposed back, must be connected to same voltage/ground.", 15 V+ A (power) "Positive Power Supply (Normally tied to 3V or 3.3V). Supply pins of A and B channels are internally separate. Bypass each pin with 1000pF and 0.1uF capacitors as close to the pins as possible.", 20 V+ A (power) "Positive Power Supply (Normally tied to 3V or 3.3V). Supply pins of A and B channels are internally separate. Bypass each pin with 1000pF and 0.1uF capacitors as close to the pins as possible.", 21 EP (power) "V-. The Exposed Pad must be connected to same voltage/ground as pins 3, 4, 13, 14."

## LTC6421CUDC-20#TRPBF
designator U?
Dual Channel, Matched Differential Amplifier / ADC Driver, 1300 MHz Typical GBW, 4500 V/us Typical SR, 2.85 to 3.5 V, 20-Pin QFN (UDC20), Commercial, Pb-Free, Reel; Linear Technology Part Number: LTC6421-20; Manufacturer: Linear Technology; PartNumber: LTC6421CUDC-20#TRPBF; Channels (#): 2; GBW (MHz) Typical: 1300; Is (mA) Typical: 40; SR (V/us) Typical: 4500; Vos (mV) Typical: 0.4; Vs Max (V): 3.5; Vs Min (V): 2.85; DatasheetVersion: Rev. B; PackageVersion: Rev Ø; PackageReference: LT-UDC-20; PackageDescription: 20-Lead Plastic QFN, Body 3 x 4 mm, Pitch 0.5 mm; Supplier 1: Digi-Key; Supplier Part Number 1: LTC6421CUDC-20#TRPBF-ND; Supplier 2: Newark; Supplier Part Number 2: 95M6546; Packing: Reel; RoHS: Pb-Free; Type: DIFF; Mounting Technology: Surface Mount; ComponentLink1Description: Manufacturer URL; ComponentLink1URL: http://www.linear.com/; ComponentLink2Description: Datasheet; ComponentLink2URL: http://cds.linear.com/docs/en/datasheet/642120f.pdf; ComponentLink3Description: Package Specification; ComponentLink3URL: http://cds.linear.com/docs/en/packaging/QFN_20_05-08-1742.pdf
footprint LT-UDC-20_N (QFN, 20-Leads, Body 4x3mm, Pitch 0.5mm, Thermal Pad 2.5x1.5mm, IPC Medium Density)
footprint LT-UDC-20_L (QFN, 20-Leads, Body 4x3mm, Pitch 0.5mm, Thermal Pad 2.5x1.5mm, IPC High Density)
footprint LT-UDC-20_M (QFN, 20-Leads, Body 4x3mm, Pitch 0.5mm, Thermal Pad 2.5x1.5mm, IPC Low Density)
part A pins: 1 +INA (in) "Differential Input of A channel respectively.", 2 -INA (in) "Differential Input of A channel respectively.", 16 -OUTA (hiz) "Differential Output of channe A respectively.", 17 +OUTA (hiz) "Differential Output of channe A respectively.", 18 ~{ENABLEA} (in) "Logic input. If low, the amplifier is enabled. If high, the amplifier is disabled and placed in a low power shutdown mode, making the amplifier outputs high impedance. These pin is internally separate. These pin should not (See Datasheet)", 19 VOCMA (in) "These pin sets the output common mode voltage for the respective channel. It is  internally separate. A 0.1uF external bypass capacitor is recommended."
part B pins: 5 -INB (in) "Differential Input of  B channel respectively.", 6 +INB (in) "Differential Input of  B channel respectively.", 8 VOCMB (in) "These pin sets the output common mode voltage for the respective channel. It is  internally separate. A 0.1uF external bypass capacitor is recommended.", 9 ~{ENABLEB} (in) "Logic input. If low, the amplifier is enabled. If high, the amplifier is disabled and placed in a low power shutdown mode, making the amplifier outputs high impedance. These pin is internally separate. These pin should not (See Datasheet)", 10 +OUTB (hiz) "Differential Output of channe B respectively.", 11 -OUTB (hiz) "Differential Output of channe B respectively."
part C pins: 3 V- (power) "Negative Power Supply. All four pins, as well as the exposed back, must be connected to same voltage/ground.", 4 V- (power) "Negative Power Supply. All four pins, as well as the exposed back, must be connected to same voltage/ground.", 7 V+ B (power) "Positive Power Supply (Normally tied to 3V or 3.3V). Supply pins of A and B channels are internally separate. Bypass each pin with 1000pF and 0.1uF capacitors as close to the pins as possible.", 12 V+ B (power) "Positive Power Supply (Normally tied to 3V or 3.3V). Supply pins of A and B channels are internally separate. Bypass each pin with 1000pF and 0.1uF capacitors as close to the pins as possible.", 13 V- (power) "Negative Power Supply. All four pins, as well as the exposed back, must be connected to same voltage/ground.", 14 V- (power) "Negative Power Supply. All four pins, as well as the exposed back, must be connected to same voltage/ground.", 15 V+ A (power) "Positive Power Supply (Normally tied to 3V or 3.3V). Supply pins of A and B channels are internally separate. Bypass each pin with 1000pF and 0.1uF capacitors as close to the pins as possible.", 20 V+ A (power) "Positive Power Supply (Normally tied to 3V or 3.3V). Supply pins of A and B channels are internally separate. Bypass each pin with 1000pF and 0.1uF capacitors as close to the pins as possible.", 21 EP (power) "V-. The Exposed Pad must be connected to same voltage/ground as pins 3, 4, 13, 14."

## LTC6421IUDC-20
designator U?
Dual Channel, Matched Differential Amplifier / ADC Driver, 1300 MHz Typical GBW, 4500 V/us Typical SR, 2.85 to 3.5 V, 20-Pin QFN (UDC20), Industrial; Linear Technology Part Number: LTC6421-20; Manufacturer: Linear Technology; PartNumber: LTC6421IUDC-20; Channels (#): 2; GBW (MHz) Typical: 1300; Is (mA) Typical: 40; SR (V/us) Typical: 4500; Vos (mV) Typical: 0.4; Vs Max (V): 3.5; Vs Min (V): 2.85; DatasheetVersion: Rev. B; PackageVersion: Rev Ø; PackageReference: LT-UDC-20; PackageDescription: 20-Lead Plastic QFN, Body 3 x 4 mm, Pitch 0.5 mm; Type: DIFF; Mounting Technology: Surface Mount; ComponentLink1Description: Manufacturer URL; ComponentLink1URL: http://www.linear.com/; ComponentLink2Description: Datasheet; ComponentLink2URL: http://cds.linear.com/docs/en/datasheet/642120f.pdf; ComponentLink3Description: Package Specification; ComponentLink3URL: http://cds.linear.com/docs/en/packaging/QFN_20_05-08-1742.pdf
footprint LT-UDC-20_N (QFN, 20-Leads, Body 4x3mm, Pitch 0.5mm, Thermal Pad 2.5x1.5mm, IPC Medium Density)
footprint LT-UDC-20_L (QFN, 20-Leads, Body 4x3mm, Pitch 0.5mm, Thermal Pad 2.5x1.5mm, IPC High Density)
footprint LT-UDC-20_M (QFN, 20-Leads, Body 4x3mm, Pitch 0.5mm, Thermal Pad 2.5x1.5mm, IPC Low Density)
part A pins: 1 +INA (in) "Differential Input of A channel respectively.", 2 -INA (in) "Differential Input of A channel respectively.", 16 -OUTA (hiz) "Differential Output of channe A respectively.", 17 +OUTA (hiz) "Differential Output of channe A respectively.", 18 ~{ENABLEA} (in) "Logic input. If low, the amplifier is enabled. If high, the amplifier is disabled and placed in a low power shutdown mode, making the amplifier outputs high impedance. These pin is internally separate. These pin should not (See Datasheet)", 19 VOCMA (in) "These pin sets the output common mode voltage for the respective channel. It is  internally separate. A 0.1uF external bypass capacitor is recommended."
part B pins: 5 -INB (in) "Differential Input of  B channel respectively.", 6 +INB (in) "Differential Input of  B channel respectively.", 8 VOCMB (in) "These pin sets the output common mode voltage for the respective channel. It is  internally separate. A 0.1uF external bypass capacitor is recommended.", 9 ~{ENABLEB} (in) "Logic input. If low, the amplifier is enabled. If high, the amplifier is disabled and placed in a low power shutdown mode, making the amplifier outputs high impedance. These pin is internally separate. These pin should not (See Datasheet)", 10 +OUTB (hiz) "Differential Output of channe B respectively.", 11 -OUTB (hiz) "Differential Output of channe B respectively."
part C pins: 3 V- (power) "Negative Power Supply. All four pins, as well as the exposed back, must be connected to same voltage/ground.", 4 V- (power) "Negative Power Supply. All four pins, as well as the exposed back, must be connected to same voltage/ground.", 7 V+ B (power) "Positive Power Supply (Normally tied to 3V or 3.3V). Supply pins of A and B channels are internally separate. Bypass each pin with 1000pF and 0.1uF capacitors as close to the pins as possible.", 12 V+ B (power) "Positive Power Supply (Normally tied to 3V or 3.3V). Supply pins of A and B channels are internally separate. Bypass each pin with 1000pF and 0.1uF capacitors as close to the pins as possible.", 13 V- (power) "Negative Power Supply. All four pins, as well as the exposed back, must be connected to same voltage/ground.", 14 V- (power) "Negative Power Supply. All four pins, as well as the exposed back, must be connected to same voltage/ground.", 15 V+ A (power) "Positive Power Supply (Normally tied to 3V or 3.3V). Supply pins of A and B channels are internally separate. Bypass each pin with 1000pF and 0.1uF capacitors as close to the pins as possible.", 20 V+ A (power) "Positive Power Supply (Normally tied to 3V or 3.3V). Supply pins of A and B channels are internally separate. Bypass each pin with 1000pF and 0.1uF capacitors as close to the pins as possible.", 21 EP (power) "V-. The Exposed Pad must be connected to same voltage/ground as pins 3, 4, 13, 14."